# EAGLE library part SILICON_LABS_SI4825-A10-CS (library Upverter Library)
SLAB-Si4825-SOIC-16-NB-16
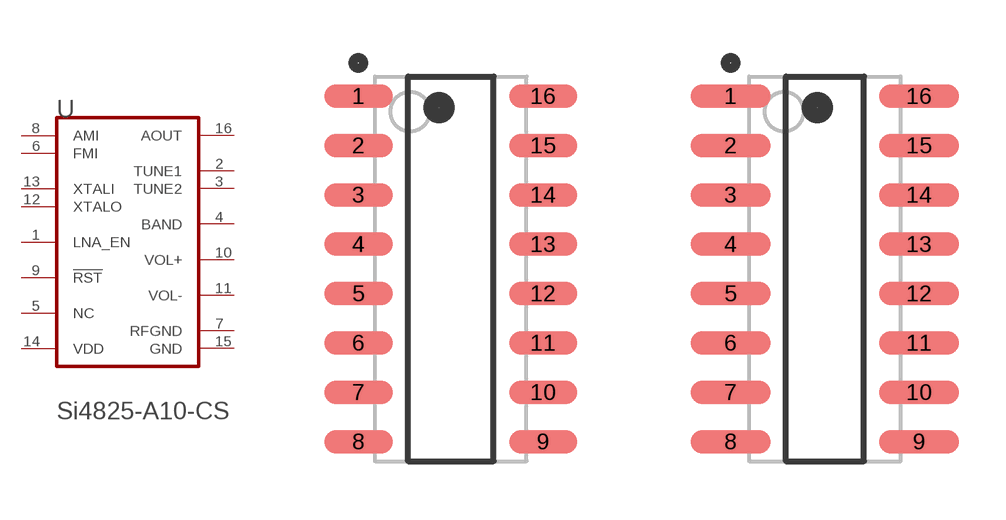
[diagram p0: symbol with the pads of SILICON_LABS_SI4825-A10-CS_0; footprints SILICON_LABS_SI4825-A10-CS_0, SILICON_LABS_SI4825-A10-CS_1]

Designator prefix U

## SILICON_LABS_SI4825-A10-CSSILICON_LABS_SI4825-A10-CS_0_0 (Code__IPC: J-STD-020; Code__JEDEC: MS-012; Component_Link_1_Description: Manufacturer URL; Component_Link_1_URL: http://www.silabs.com/; Component_Link_3_Description: Package Specification; Component_Link_3_URL: http://www.silabs.com/Support%20Documents/TechnicalDocs/si2401.pdf; Datasheet_Version: Rev. 1.0; MF: Silicon Labs; MPN: Si4825-A10-CS; Mounting_Technology: Surface Mount; Package_Description: 16-Pin Small-Outline Integrated Circuit, Body 9.9 x 3.9 mm, Pitch 1.27 mm; RDS_Support: false; Sub__Family: AM/FM, Shortwave, Longwave, Weather Band Receivers; ciiva_ids: 8865163; datasheet: http://www.silabs.com/Support Documents/TechnicalDocs/Si4825-A10.pdf; footprint_variant_name_0: Level C; footprint_variant_name_1: Level B; footprint_variant_name_2: Level A; import_ts: 1521848159; imported: yes; imported_from: vault; package: SOIC-16-NB; pin_0_0_12_inside_edge: clock; prefix: U; release_date: 1382427841; vault_guid: FF627C0C-6F04-4CD9-A8DD-D8BCD44C89B6; vault_revision: 47CE571D-67E0-476C-8CEC-131F609130D3)  [SILICON_LABS_SI4825-A10-CS_0]
1  LNA_EN  in
2  TUNE1  in
3  TUNE2  in
4  BAND  in
5  NC  pas
6  FMI  in
7  RFGND  pwr
8  AMI  in
9  !RST!  in
10  VOL+  in
11  VOL-  in
12  XTALO  pas
13  XTALI  in
14  VDD  pwr
15  GND  pwr
16  AOUT  out

## SILICON_LABS_SI4825-A10-CSSILICON_LABS_SI4825-A10-CS_0_1 (Code__IPC: J-STD-020; Code__JEDEC: MS-012; Component_Link_1_Description: Manufacturer URL; Component_Link_1_URL: http://www.silabs.com/; Component_Link_3_Description: Package Specification; Component_Link_3_URL: http://www.silabs.com/Support%20Documents/TechnicalDocs/si2401.pdf; Datasheet_Version: Rev. 1.0; MF: Silicon Labs; MPN: Si4825-A10-CS; Mounting_Technology: Surface Mount; Package_Description: 16-Pin Small-Outline Integrated Circuit, Body 9.9 x 3.9 mm, Pitch 1.27 mm; RDS_Support: false; Sub__Family: AM/FM, Shortwave, Longwave, Weather Band Receivers; ciiva_ids: 8865163; datasheet: http://www.silabs.com/Support Documents/TechnicalDocs/Si4825-A10.pdf; footprint_variant_name_0: Level C; footprint_variant_name_1: Level B; footprint_variant_name_2: Level A; import_ts: 1521848159; imported: yes; imported_from: vault; package: SOIC-16-NB; pin_0_0_12_inside_edge: clock; prefix: U; release_date: 1382427841; vault_guid: FF627C0C-6F04-4CD9-A8DD-D8BCD44C89B6; vault_revision: 47CE571D-67E0-476C-8CEC-131F609130D3)  [SILICON_LABS_SI4825-A10-CS_1]
Pads as for SILICON_LABS_SI4825-A10-CS_0

## SILICON_LABS_SI4825-A10-CSSILICON_LABS_SI4825-A10-CS_0_2 (Code__IPC: J-STD-020; Code__JEDEC: MS-012; Component_Link_1_Description: Manufacturer URL; Component_Link_1_URL: http://www.silabs.com/; Component_Link_3_Description: Package Specification; Component_Link_3_URL: http://www.silabs.com/Support%20Documents/TechnicalDocs/si2401.pdf; Datasheet_Version: Rev. 1.0; MF: Silicon Labs; MPN: Si4825-A10-CS; Mounting_Technology: Surface Mount; Package_Description: 16-Pin Small-Outline Integrated Circuit, Body 9.9 x 3.9 mm, Pitch 1.27 mm; RDS_Support: false; Sub__Family: AM/FM, Shortwave, Longwave, Weather Band Receivers; ciiva_ids: 8865163; datasheet: http://www.silabs.com/Support Documents/TechnicalDocs/Si4825-A10.pdf; footprint_variant_name_0: Level C; footprint_variant_name_1: Level B; footprint_variant_name_2: Level A; import_ts: 1521848159; imported: yes; imported_from: vault; package: SOIC-16-NB; pin_0_0_12_inside_edge: clock; prefix: U; release_date: 1382427841; vault_guid: FF627C0C-6F04-4CD9-A8DD-D8BCD44C89B6; vault_revision: 47CE571D-67E0-476C-8CEC-131F609130D3)  [SILICON_LABS_SI4825-A10-CS_2]
Pads as for SILICON_LABS_SI4825-A10-CS_0

## Footprint SILICON_LABS_SI4825-A10-CS_0 (pad centres in mm)
SLAB-Si4825-SOIC-16-NB-16
smd 1.75 x 0.6: 1 -2.375,4.445; 2 -2.375,3.175; 3 -2.375,1.905; 4 -2.375,0.635; 5 -2.375,-0.635; 6 -2.375,-1.905; 7 -2.375,-3.175; 8 -2.375,-4.445; 9 2.375,-4.445; 10 2.375,-3.175; 11 2.375,-1.905; 12 2.375,-0.635; 13 2.375,0.635; 14 2.375,1.905; 15 2.375,3.175; 16 2.375,4.445

## Footprint SILICON_LABS_SI4825-A10-CS_1 (pad centres in mm)
SLAB-Si4825-SOIC-16-NB-16
smd 2.05 x 0.6: 1 -2.425,4.445; 2 -2.425,3.175; 3 -2.425,1.905; 4 -2.425,0.635; 5 -2.425,-0.635; 6 -2.425,-1.905; 7 -2.425,-3.175; 8 -2.425,-4.445; 9 2.425,-4.445; 10 2.425,-3.175; 11 2.425,-1.905; 12 2.425,-0.635; 13 2.425,0.635; 14 2.425,1.905; 15 2.425,3.175; 16 2.425,4.445

## Footprint SILICON_LABS_SI4825-A10-CS_2 (pad centres in mm)
SLAB-Si4825-SOIC-16-NB-16
smd 2.35 x 0.7: 1 -2.475,4.445; 2 -2.475,3.175; 3 -2.475,1.905; 4 -2.475,0.635; 5 -2.475,-0.635; 6 -2.475,-1.905; 7 -2.475,-3.175; 8 -2.475,-4.445; 9 2.475,-4.445; 10 2.475,-3.175; 11 2.475,-1.905; 12 2.475,-0.635; 13 2.475,0.635; 14 2.475,1.905; 15 2.475,3.175; 16 2.475,4.445